# EAGLE library part ATTINY85 (library Circuitos-Creativos-Integrados-8pin)
microcontrolador Atmel de 8 bits, SOIC-8
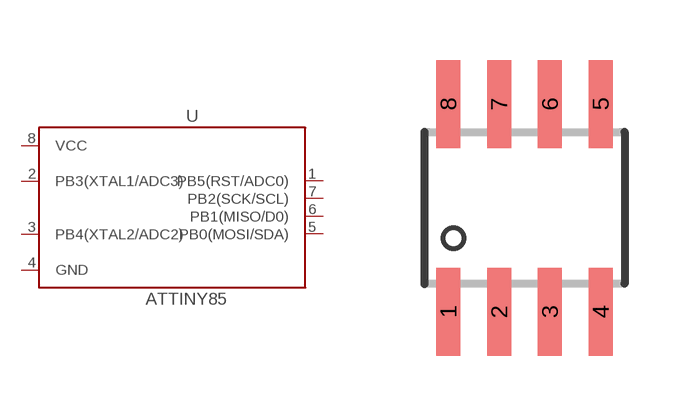
[diagram p3: symbol with the pads of SOIC-8; footprint SOIC-8]

Designator prefix U

## ATTINY85  [SOIC-8]
1  PB5(RST/ADC0)
2  PB3(XTAL1/ADC3)
3  PB4(XTAL2/ADC2)
4  GND  pwr
5  PB0(MOSI/SDA)
6  PB1(MISO/D0)
7  PB2(SCK/SCL)
8  VCC  pwr

## Footprint SOIC-8 (pad centres in mm)
smd 0.6 x 2.2: 1 -1.905,-2.6; 2 -0.635,-2.6; 3 0.635,-2.6; 4 1.905,-2.6; 5 1.905,2.6; 6 0.635,2.6; 7 -0.635,2.6; 8 -1.905,2.6